# Altium schematic symbol library PTN78020W.SchLib: 1 symbol
Pins are listed as number, name and electrical type; pins without a type are passive.

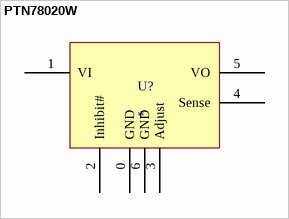
[diagram p0: symbol PTN78020W]

## PTN78020W
designator U?
footprint EUW (ThroughHole TI regulator package)
pins: 0 GND, 1 VI, 2 Inhibit#, 3 Adjust, 4 Sense, 5 VO, 6 GND